# Altium schematic symbol library LPS33KTR.SchLib: 1 symbol
Pins are listed as number, name and electrical type; pins without a type are passive.

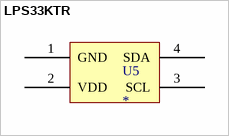
[diagram p0: symbol LPS33KTR]

## LPS33KTR
designator U5
footprint LPS33KTR
pins: 1 GND, 2 VDD, 3 SCL, 4 SDA